# Altium footprint library TSSOP.PcbLib: 13 footprints
Each footprint in its own frame and in the unit in brackets; x right, y up, seen from the top. Pads: shape width x height; smd on the part's side, far side on the other; paste and mask are expansions set on the pad; w line width, h text height; cw(c..) or ccw(c..) is an arc to the next point about the centre after c.
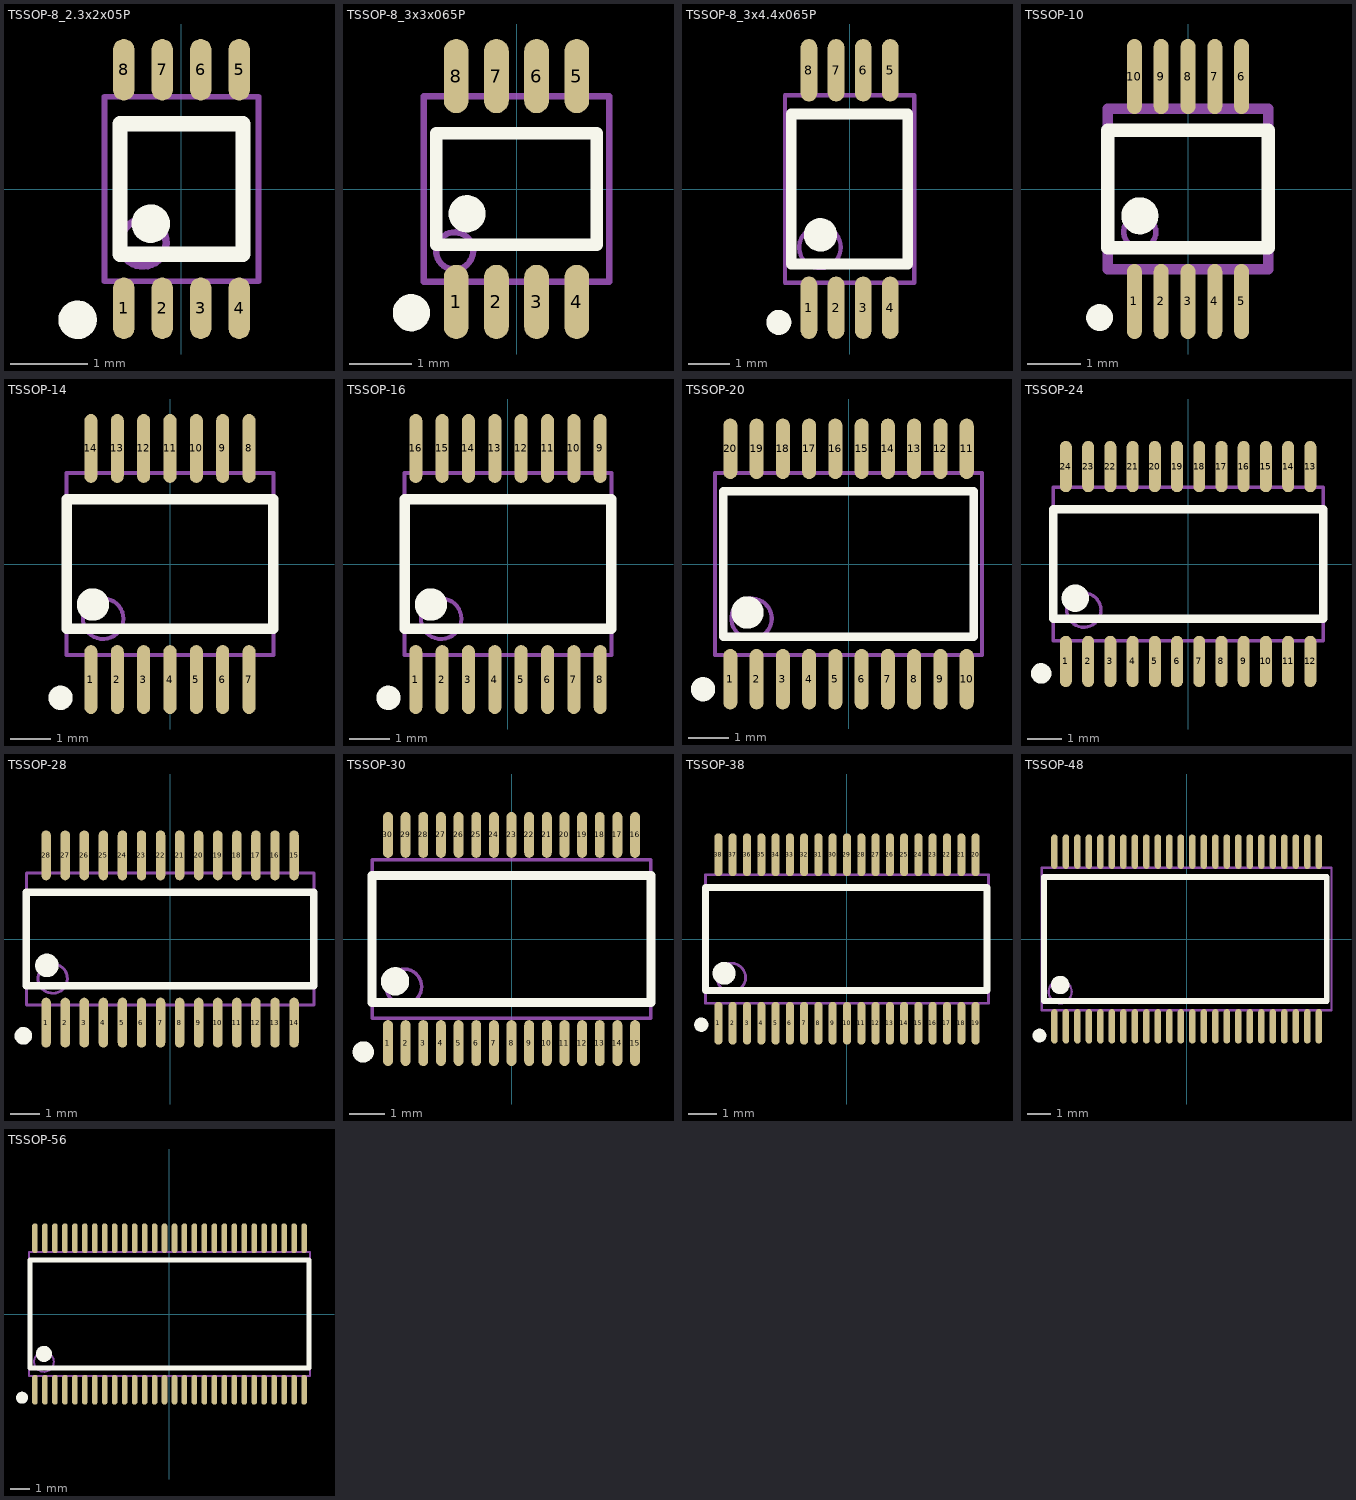
[diagram p0: the footprints below, top view; thin cyan lines are the x and y axes]

## TSSOP-8_2.3x2x05P [mm]
pads (8):
  oval 0.28x0.8 smd mask+0.051: 1(-0.75,-1.55) 2(-0.25,-1.55) 3(0.25,-1.55) 4(0.75,-1.55) 5(0.75,1.55) 6(0.25,1.55) 7(-0.25,1.55) 8(-0.75,1.55)
Top Overlay:
  circle w0.25: c-0.4,-0.45 r0.125
  circle w0.25: c-1.35,-1.7 r0.125
  lines w0.2: -0.8,-0.85 -0.8,0.85 0.8,0.85 0.8,-0.85 -0.8,-0.85
Mechanical 13:
  circle w0.1: c-0.5,-0.7 r0.3
  lines w0.076: -1,-1.2 -1,1.2 1,1.2 1,-1.2 -1,-1.2

## TSSOP-8_3x3x065P [mm]
pads (8):
  oval 0.4x1.2 smd mask+0.051: 1(-0.975,-1.825) 2(-0.325,-1.825) 3(0.325,-1.825) 4(0.975,-1.825) 5(0.975,1.825) 6(0.325,1.825) 7(-0.325,1.825) 8(-0.975,1.825)
Top Overlay:
  circle w0.3: c-1.7,-2 r0.15
  circle w0.3: c-0.8,-0.4 r0.15
  lines w0.2: -1.3,-0.9 -1.3,0.9 1.3,0.9 1.3,-0.9 -1.3,-0.9
Mechanical 13:
  circle w0.1: c-1,-1 r0.3
  lines w0.1: -1.5,-1.5 -1.5,1.5 1.5,1.5 1.5,-1.5 -1.5,-1.5

## TSSOP-8_3x4.4x065P [mm]
pads (8):
  oval 0.4x1.5 smd mask+0.051: 1(-0.975,-2.85) 2(-0.325,-2.85) 3(0.325,-2.85) 4(0.975,-2.85) 5(0.975,2.85) 6(0.325,2.85) 7(-0.325,2.85) 8(-0.975,2.85)
Top Overlay:
  circle w0.3: c-1.7,-3.2 r0.15
  circle w0.4: c-0.7,-1.1 r0.2
  lines w0.254: -1.4,-1.8 1.4,-1.8 1.4,1.8 -1.4,1.8 -1.4,-1.8
Mechanical 13:
  circle w0.1: c-0.711,-1.4 r0.5
  lines w0.1: -1.55,-2.25 1.55,-2.25 1.55,2.25 -1.55,2.25 -1.55,-2.25

## TSSOP-10 [mm]
pads (10):
  oval 0.28x1.4 smd mask+0.051: 1(-1,-2.1) 2(-0.5,-2.1) 3(0,-2.1) 4(0.5,-2.1) 5(1,-2.1) 6(1,2.1) 7(0.5,2.1) 8(0,2.1) 9(-0.5,2.1) 10(-1,2.1)
Top Overlay:
  circle w0.25: c-1.65,-2.4 r0.125
  circle w0.35: c-0.9,-0.5 r0.17
  lines w0.254: -1.5,-1.1 -1.5,1.1 1.5,1.1 1.5,-1.1 -1.5,-1.1
Mechanical 13:
  circle w0.1: c-0.9,-0.8 r0.3
  lines w0.2: -1.5,-1.5 1.5,-1.5 1.5,1.5 -1.5,1.5 -1.5,-1.5

## TSSOP-14 [mm]
pads (14):
  oval 0.32x1.7 smd: 1(-1.95,-2.85) 2(-1.3,-2.85) 3(-0.65,-2.85) 4(0,-2.85) 5(0.65,-2.85) 6(1.3,-2.85) 7(1.95,-2.85) 8(1.95,2.85) 9(1.3,2.85) 10(0.65,2.85) 11(0,2.85) 12(-0.65,2.85) 13(-1.3,2.85) 14(-1.95,2.85)
Top Overlay:
  circle w0.4: c-1.9,-1 r0.2
  circle w0.3: c-2.7,-3.3 r0.15
  lines w0.254: -2.55,-1.6 2.55,-1.6 2.55,1.6 -2.55,1.6 -2.55,-1.6
Mechanical 13:
  circle w0.1: c-1.65,-1.35 r0.5
  lines w0.1: -2.55,-2.25 2.55,-2.25 2.55,2.25 -2.55,2.25 -2.55,-2.25

## TSSOP-16 [mm]
pads (16):
  oval 0.32x1.7 smd: 1(-2.275,-2.85) 2(-1.625,-2.85) 3(-0.975,-2.85) 4(-0.325,-2.85) 5(0.325,-2.85) 6(0.975,-2.85) 7(1.625,-2.85) 8(2.275,-2.85) 9(2.275,2.85) 10(1.625,2.85) 11(0.975,2.85) 12(0.325,2.85) 13(-0.325,2.85) 14(-0.975,2.85) 15(-1.625,2.85) 16(-2.275,2.85)
Top Overlay:
  circle w0.4: c-1.9,-1 r0.2
  circle w0.3: c-2.95,-3.3 r0.15
  lines w0.254: -2.55,-1.6 2.55,-1.6 2.55,1.6 -2.55,1.6 -2.55,-1.6
Mechanical 13:
  circle w0.1: c-1.65,-1.35 r0.5
  lines w0.1: -2.55,-2.25 2.55,-2.25 2.55,2.25 -2.55,2.25 -2.55,-2.25
3D body: height 1.2, standoff 0, extent -2.54,-2.286 2.54,2.286

## TSSOP-20 [mm]
pads (20):
  oval 0.35x1.5 smd: 1(-2.925,-2.85) 2(-2.275,-2.85) 3(-1.625,-2.85) 4(-0.975,-2.85) 5(-0.325,-2.85) 6(0.325,-2.85) 7(0.975,-2.85) 8(1.625,-2.85) 9(2.275,-2.85) 10(2.925,-2.85) 11(2.925,2.85) 12(2.275,2.85) 13(1.625,2.85) 14(0.975,2.85) 15(0.325,2.85) 16(-0.325,2.85) 17(-0.975,2.85) 18(-1.625,2.85) 19(-2.275,2.85) 20(-2.925,2.85)
Top Overlay:
  circle w0.4: c-2.5,-1.2 r0.2
  circle w0.3: c-3.6,-3.1 r0.15
  lines w0.2: -3.1,-1.8 3.1,-1.8 3.1,1.8 -3.1,1.8 -3.1,-1.8
Mechanical 13:
  circle w0.1: c-2.4,-1.35 r0.5
  lines w0.1: -3.3,-2.25 3.3,-2.25 3.3,2.25 -3.3,2.25 -3.3,-2.25

## TSSOP-24 [mm]
pads (24):
  oval 0.35x1.5 smd: 1(-3.575,-2.85) 2(-2.925,-2.85) 3(-2.275,-2.85) 4(-1.625,-2.85) 5(-0.975,-2.85) 6(-0.325,-2.85) 7(0.325,-2.85) 8(0.975,-2.85) 9(1.625,-2.85) 10(2.275,-2.85) 11(2.925,-2.85) 12(3.575,-2.85) 13(3.575,2.85) 14(2.925,2.85) 15(2.275,2.85) 16(1.625,2.85) 17(0.975,2.85) 18(0.325,2.85) 19(-0.325,2.85) 20(-0.975,2.85) 21(-1.625,2.85) 22(-2.275,2.85) 23(-2.925,2.85) 24(-3.575,2.85)
Top Overlay:
  circle w0.4: c-3.3,-1 r0.2
  circle w0.3: c-4.3,-3.2 r0.15
  lines w0.254: -3.95,-1.6 3.95,-1.6 3.95,1.6 -3.95,1.6 -3.95,-1.6
Mechanical 13:
  circle w0.1: c-3.05,-1.35 r0.5
  lines w0.1: -3.95,-2.25 3.95,-2.25 3.95,2.25 -3.95,2.25 -3.95,-2.25

## TSSOP-28 [mm]
pads (28):
  oval 0.32x1.7 smd: 1(-4.225,-2.85) 2(-3.575,-2.85) 3(-2.925,-2.85) 4(-2.275,-2.85) 5(-1.625,-2.85) 6(-0.975,-2.85) 7(-0.325,-2.85) 8(0.325,-2.85) 9(0.975,-2.85) 10(1.625,-2.85) 11(2.275,-2.85) 12(2.925,-2.85) 13(3.575,-2.85) 14(4.225,-2.85) 15(4.225,2.85) 16(3.575,2.85) 17(2.925,2.85) 18(2.275,2.85) 19(1.625,2.85) 20(0.975,2.85) 21(0.325,2.85) 22(-0.325,2.85) 23(-0.975,2.85) 24(-1.625,2.85) 25(-2.275,2.85) 26(-2.925,2.85) 27(-3.575,2.85) 28(-4.225,2.85)
Top Overlay:
  circle w0.3: c-5,-3.3 r0.15
  circle w0.4: c-4.2,-0.9 r0.2
  lines w0.254: -4.9,-1.6 -4.9,1.6 4.9,1.6 4.9,-1.6 -4.9,-1.6
Mechanical 13:
  circle w0.1: c-4,-1.35 r0.5
  lines w0.1: -4.9,-2.25 -4.9,2.25 4.9,2.25 4.9,-2.25 -4.9,-2.25

## TSSOP-30 [mm]
pads (30):
  oval 0.28x1.3 smd mask+0.051: 1(-3.5,-2.95) 2(-3,-2.95) 3(-2.5,-2.95) 4(-2,-2.95) 5(-1.5,-2.95) 6(-1,-2.95) 7(-0.5,-2.95) 8(0,-2.95) 9(0.5,-2.95) 10(1,-2.95) 11(1.5,-2.95) 12(2,-2.95) 13(2.5,-2.95) 14(3,-2.95) 15(3.5,-2.95) 16(3.5,2.95) 17(3,2.95) 18(2.5,2.95) 19(2,2.95) 20(1.5,2.95) 21(1,2.95) 22(0.5,2.95) 23(0,2.95) 24(-0.5,2.95) 25(-1,2.95) 26(-1.5,2.95) 27(-2,2.95) 28(-2.5,2.95) 29(-3,2.95) 30(-3.5,2.95)
Top Overlay:
  circle w0.3: c-4.2,-3.2 r0.15
  circle w0.4: c-3.3,-1.2 r0.2
  lines w0.254: -3.95,-1.8 -3.95,1.8 3.95,1.8 3.95,-1.8 -3.95,-1.8
Mechanical 13:
  circle w0.1: c-3.05,-1.35 r0.5
  lines w0.1: -3.95,-2.25 -3.95,2.25 3.95,2.25 3.95,-2.25 -3.95,-2.25

## TSSOP-38 [mm]
pads (38):
  oval 0.28x1.5 smd mask+0.051: 1(-4.5,-2.95) 2(-4,-2.95) 3(-3.5,-2.95) 4(-3,-2.95) 5(-2.5,-2.95) 6(-2,-2.95) 7(-1.5,-2.95) 8(-1,-2.95) 9(-0.5,-2.95) 10(0,-2.95) 11(0.5,-2.95) 12(1,-2.95) 13(1.5,-2.95) 14(2,-2.95) 15(2.5,-2.95) 16(3,-2.95) 17(3.5,-2.95) 18(4,-2.95) 19(4.5,-2.95) 20(4.5,2.95) 21(4,2.95) 22(3.5,2.95) 23(3,2.95) 24(2.5,2.95) 25(2,2.95) 26(1.5,2.95) 27(1,2.95) 28(0.5,2.95) 29(0,2.95) 30(-0.5,2.95) 31(-1,2.95) 32(-1.5,2.95) 33(-2,2.95) 34(-2.5,2.95) 35(-3,2.95) 36(-3.5,2.95) 37(-4,2.95) 38(-4.5,2.95)
Top Overlay:
  circle w0.4: c-4.3,-1.2 r0.2
  circle w0.25: c-5.1,-3 r0.125
  lines w0.254: -4.95,-1.8 4.9,-1.8 4.9,1.8 -4.95,1.8 -4.95,-1.8
Mechanical 13:
  circle w0.1: c-4.05,-1.35 r0.5
  lines w0.1: -4.95,-2.25 4.95,-2.25 4.95,2.25 -4.95,2.25 -4.95,-2.25

## TSSOP-48 [mm]
pads (48):
  oval 0.28x1.5 smd mask+0.051: 1(-5.75,-3.8) 2(-5.25,-3.8) 3(-4.75,-3.8) 4(-4.25,-3.8) 5(-3.75,-3.8) 6(-3.25,-3.8) 7(-2.75,-3.8) 8(-2.25,-3.8) 9(-1.75,-3.8) 10(-1.25,-3.8) 11(-0.75,-3.8) 12(-0.25,-3.8) 13(0.25,-3.8) 14(0.75,-3.8) 15(1.25,-3.8) 16(1.75,-3.8) 17(2.25,-3.8) 18(2.75,-3.8) 19(3.25,-3.8) 20(3.75,-3.8) 21(4.25,-3.8) 22(4.75,-3.8) 23(5.25,-3.8) 24(5.75,-3.8) 25(5.75,3.8) 26(5.25,3.8) 27(4.75,3.8) 28(4.25,3.8) 29(3.75,3.8) 30(3.25,3.8) 31(2.75,3.8) 32(2.25,3.8) 33(1.75,3.8) 34(1.25,3.8) 35(0.75,3.8) 36(0.25,3.8) 37(-0.25,3.8) 38(-0.75,3.8) 39(-1.25,3.8) 40(-1.75,3.8) 41(-2.25,3.8) 42(-2.75,3.8) 43(-3.25,3.8) 44(-3.75,3.8) 45(-4.25,3.8) 46(-4.75,3.8) 47(-5.25,3.8) 48(-5.75,3.8)
Top Overlay:
  circle w0.4: c-5.5,-2 r0.2
  circle w0.3: c-6.4,-4.2 r0.15
  lines w0.254: -6.2,-2.7 -6.2,2.7 6.1,2.7 6.1,-2.7 -6.2,-2.7
Mechanical 13:
  circle w0.1: c-5.5,-2.3 r0.5
  lines w0.1: -6.3,-3.1 6.3,-3.1 6.3,3.1 -6.3,3.1 -6.3,-3.1

## TSSOP-56 [mm]
pads (56):
  oval 0.28x1.5 smd mask+0.051: 1(-6.75,-3.8) 2(-6.25,-3.8) 3(-5.75,-3.8) 4(-5.25,-3.8) 5(-4.75,-3.8) 6(-4.25,-3.8) 7(-3.75,-3.8) 8(-3.25,-3.8) 9(-2.75,-3.8) 10(-2.25,-3.8) 11(-1.75,-3.8) 12(-1.25,-3.8) 13(-0.75,-3.8) 14(-0.25,-3.8) 15(0.25,-3.8) 16(0.75,-3.8) 17(1.25,-3.8) 18(1.75,-3.8) 19(2.25,-3.8) 20(2.75,-3.8) 21(3.25,-3.8) 22(3.75,-3.8) 23(4.25,-3.8) 24(4.75,-3.8) 25(5.25,-3.8) 26(5.75,-3.8) 27(6.25,-3.8) 28(6.75,-3.8) 29(6.75,3.8) 30(6.25,3.8) 31(5.75,3.8) 32(5.25,3.8) 33(4.75,3.8) 34(4.25,3.8) 35(3.75,3.8) 36(3.25,3.8) 37(2.75,3.8) 38(2.25,3.8) 39(1.75,3.8) 40(1.25,3.8) 41(0.75,3.8) 42(0.25,3.8) 43(-0.25,3.8) 44(-0.75,3.8) 45(-1.25,3.8) 46(-1.75,3.8) 47(-2.25,3.8) 48(-2.75,3.8) 49(-3.25,3.8) 50(-3.75,3.8) 51(-4.25,3.8) 52(-4.75,3.8) 53(-5.25,3.8) 54(-5.75,3.8) 55(-6.25,3.8) 56(-6.75,3.8)
Top Overlay:
  circle w0.4: c-6.3,-2 r0.2
  circle w0.3: c-7.4,-4.2 r0.15
  lines w0.254: -7,-2.7 7,-2.7 7,2.7 -7,2.7 -7,-2.7
Mechanical 13:
  circle w0.1: c-6.3,-2.4 r0.5
  lines w0.1: -7.05,-3.1 7.05,-3.1 7.05,3.1 -7.05,3.1 -7.05,-3.1